# EAGLE library part GEN_8_EP (library bschulz)
Generic 8 Pin Package for Breakout Boards w/Exposed Pad
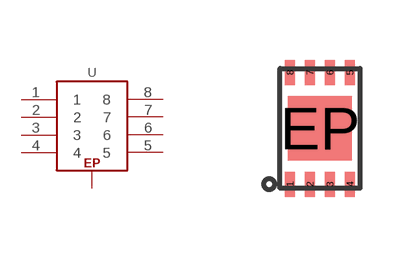
[diagram p170: symbol with the pads of WSON-8_2X3; footprint WSON-8_2X3]

Designator prefix U

## GEN_8_EPWSON-8_2X3  [WSON-8_2X3]
1  1
2  2
3  3
4  4
5  5
6  6
7  7
8  8
EP  EP  pas

## Footprint WSON-8_2X3 (pad centres in mm)
WSON, 8 pos, EP, 2x3mm body, 0.5mm Pitch Datasheet <https://www.nxp.com/docs/en/data-sheet/PCA9617A.pdf>
smd 0.25 x 0.625: 1 -0.75,-1.4; 2 -0.25,-1.4; 3 0.25,-1.4; 4 0.75,-1.4; 5 0.75,1.4; 6 0.25,1.4; 7 -0.25,1.4; 8 -0.75,1.4
smd 1.6 x 1.6: EP 0,0